# Altium footprint library capacitors.pcblib: 28 footprints (part 1 of 2)
Each footprint in its own frame and in the unit in brackets; x right, y up, seen from the top. Pads: shape width x height; smd on the part's side, far side on the other; paste and mask are expansions set on the pad; w line width, h text height; cw(c..) or ccw(c..) is an arc to the next point about the centre after c.
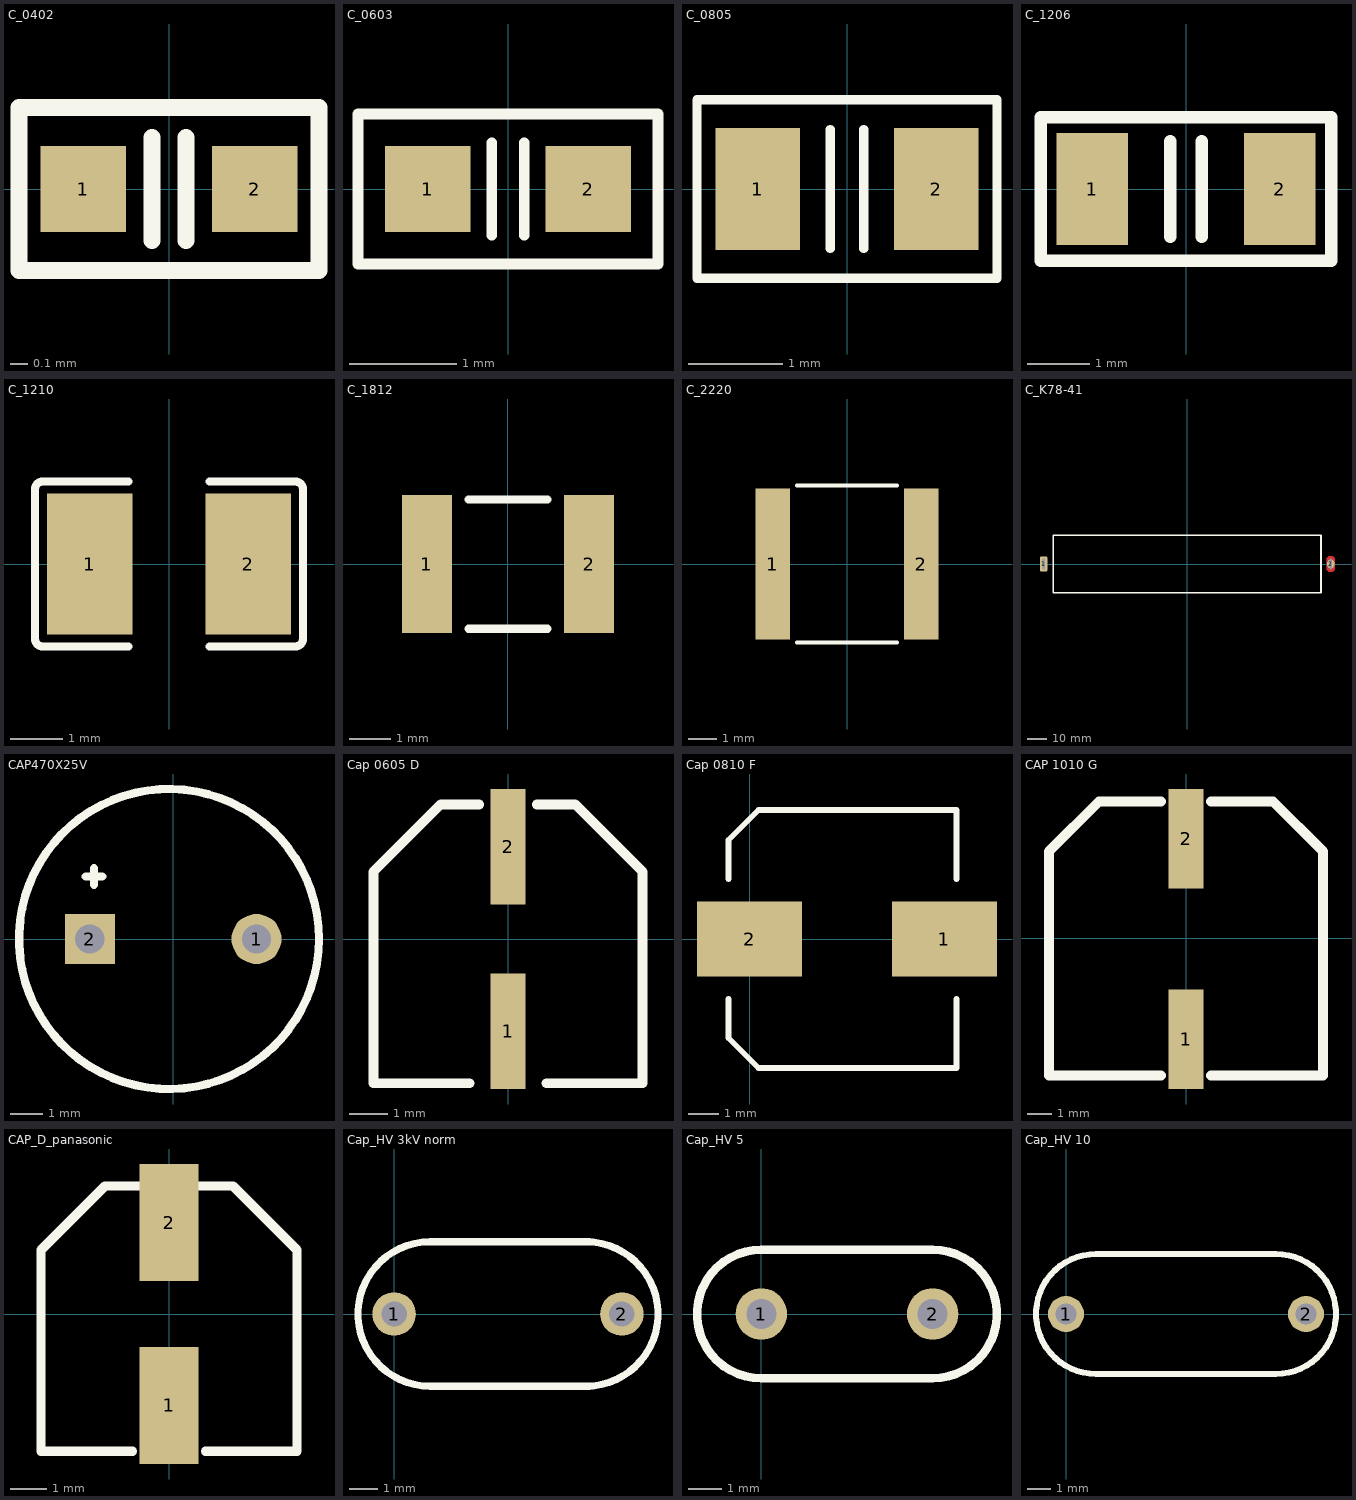
[diagram p0: the footprints below, top view; thin cyan lines are the x and y axes]

## C_0402 [mm]
pads (2):
  rect 0.5x0.5 smd: 1(-0.5,0) 2(0.5,0)
Top Overlay:
  lines w0.1: -0.1,-0.3 -0.1,0.3 ; 0.1,-0.3 0.1,0.3 ; -0.875,-0.475 0.875,-0.475 0.875,0.475 -0.875,0.475 -0.875,-0.475
3D body "User Library-cap_0402.step": height 0.5, standoff 0, extent -0.5,-0.25 0.5,0.25

## C_0603 [mm] "Chip Capacitor; Body 1.6 x 0.8 mm (LxW typ)"
height 0.87
pads (2):
  rect 0.8x0.8 smd: 1(-0.75,0) 2(0.75,0)
Top Overlay:
  lines w0.1: -0.152,-0.432 -0.152,0.432 ; 0.152,-0.432 0.152,0.432 ; -1.4,-0.7 -1.4,0.7 1.4,0.7 1.4,-0.7 -1.4,-0.7
3D body "0603 SMD Capacitor.step": height 0.3, standoff 0, extent -0.8,-0.4 0.8,0.4

## C_0805 [mm] "Capacitor Pattern"
height 2.54
pads (2):
  rect 0.9x1.3 smd: 1(-0.95,0) 2(0.95,0)
Top Overlay:
  lines w0.1: -0.178,-0.635 -0.178,0.635 ; 0.178,-0.635 0.178,0.635 ; -1.6,-0.95 1.6,-0.95 1.6,0.95 -1.6,0.95 -1.6,-0.95
3D body "User Library-Chip Cap_MLCC_0805 (2012)_A.step": height 0.6, standoff 0, extent -1,-0.63 1,0.62

## C_1206 [mm]
height 3.048
pads (2):
  rect 1.15x1.8 smd: 1(-1.5,0) 2(1.5,0)
Top Overlay:
  lines w0.2: -0.254,-0.762 -0.254,0.762 ; 0.254,-0.762 0.254,0.762 ; -2.325,-1.15 2.325,-1.15 2.325,1.15 -2.325,1.15 -2.325,-1.15
3D body "1206 SMD Capacitor.step": height 1, standoff 0, extent -1.6,-0.8 1.6,0.8

## C_1210 [mm]
pads (2):
  rect 1.635x2.7 smd paste-100 mask+0.051: 1(-1.517,0) 2(1.517,0)
Top Overlay:
  lines w0.152: -0.776,-1.579 -2.411,-1.579 cw(c-2.411,-1.426) -2.564,-1.426 -2.564,1.426 cw(c-2.411,1.426) -2.411,1.579 -0.776,1.579 ; 0.776,-1.579 2.411,-1.579 ccw(c2.411,-1.426) 2.564,-1.426 2.564,1.426 ccw(c2.411,1.426) 2.411,1.579 0.776,1.579
Top Paste:
  region: -0.7,-1.25 -0.7,-0.559 -0.8,-0.459 -1.156,-0.459 -1.256,-0.359 -1.256,0.359 -1.156,0.459 -0.8,0.459 -0.7,0.559 -0.7,1.25 -0.8,1.35 -2.235,1.35 -2.335,1.25 -2.335,-1.25 -2.235,-1.35 -0.8,-1.35
  region: 0.7,-1.25 0.7,-0.559 0.8,-0.459 1.156,-0.459 1.256,-0.359 1.256,0.359 1.156,0.459 0.8,0.459 0.7,0.559 0.7,1.25 0.8,1.35 2.235,1.35 2.335,1.25 2.335,-1.25 2.235,-1.35 0.8,-1.35
3D body "User Library-CAPC3225.step": height 2.5, standoff 0, extent -1.6,-1.25 1.6,1.25

## C_1812 [mm]
pads (2):
  rect 1.2x3.3 smd: 1(-1.95,0) 2(1.95,0)
Top Overlay:
  lines w0.2: -0.95,-1.55 0.95,-1.55 ; -0.95,1.55 0.95,1.55
3D body: height 1.9, standoff 0, extent -2.4,-1.7 -1.8,1.7
3D body: height 1.9, standoff 0, extent 1.8,-1.7 2.4,1.7
3D body: height 1.9, standoff 0, extent -1.8,-1.7 1.8,1.7

## C_2220 [mm]
pads (2):
  rect 1.2x5.3 smd: 1(-2.6,0) 2(2.6,0)
Top Overlay:
  lines w0.15: -1.75,-2.75 1.75,-2.75 ; -1.75,2.75 1.75,2.75
3D body "User Library-SMD CAPACITOR.step": height 1, standoff 0, extent -2.8,-2.5 2.8,2.5

## C_K78-41 [mm] "Capacitor"
height 2.54
pads (2):
  rrect50% 4x8 hole 1.1 slot 5.5 at 90 deg: 1(-75,0)
  oct 4x4 hole 1.1 slot 5.5 at 90 deg: 2(75,0)
Top Layer:
  region: 73,-3 73,3 74,4 76,4 77,3 77,-3 76,-4 74,-4
Bottom Layer:
  region: 73,-3 73,3 74,4 76,4 77,3 77,-3 76,-4 74,-4
Top Overlay:
  lines w1: -70,-15 70,-15 70,15 0,15 -70,15 -70,-15

## CAP470X25V [mil]
height 472.44
pads (2):
  round 60 hole 35: 1(100,0)
  rect 60x60 hole 35: 2(-100,0)
Top Overlay:
  circle w10: c-5,0 r180
  lines w10: -105,75 -85,75 ; -95,65 -95,85
3D body "Cap electro 10x12_5x5_0mm.step": height 512.81, standoff -136.91, extent -197.85,-197.85 197.85,197.85

## Cap 0605 D [mm] "Aluminum SMT 8.6x8.6x10mm cap"
pads (2):
  rect 0.9x3 smd: 1(0,-2.4) 2(0,2.4)
Top Overlay:
  lines w0.254: -1,-3.75 -3.5,-3.75 -3.5,1.75 -1.75,3.5 -0.75,3.5 ; 0.75,3.5 1.75,3.5 3.5,1.75 3.5,-3.75 1,-3.75
3D body "User Library-ALU-D.STEP": height 5.4, standoff 0, extent -3.3,-3.5 3.3,3.5

## Cap 0810 F [mm] "Aluminum SMT 8.6x8.6x10mm cap"
pads (2):
  rect 3.5x2.5 smd: 1(6.5,0) 2(0,0)
Top Overlay:
  lines w0.2: -0.7,-2 -0.7,-3.3 0.3,-4.3 ; -0.7,2 -0.7,3.3 0.3,4.3 ; 6.9,-2 6.9,-4.3 0.3,-4.3 ; 6.9,2 6.9,4.3 0.3,4.3 ; 0.3,-4.3 0.3,-4.3 ; 0.3,4.3 0.3,4.3
3D body "Cap_0810.STEP": height 10.3, standoff -0.2, extent -1.652,-4.25 8.048,4.25

## CAP 1010 G [mm]
pads (2):
  rect 1.4x4 smd: 1(0,-4.05) 2(0,4)
Top Overlay:
  lines w0.4: -1,-5.5 -5.5,-5.5 -5.5,3.5 -3.5,5.5 -1,5.5 ; 1,-5.5 5.5,-5.5 5.5,3.5 3.5,5.5 1,5.5
3D body "User Library-CC1010.step": height 10.41, standoff 0, extent -5.2,-5.5 5.2,5.5

## CAP_D_panasonic [mm]
pads (2):
  rect 1.6x3.2 smd: 1(0,-2.5) 2(0,2.5)
Top Overlay:
  lines w0.254: -1,-3.75 -3.5,-3.75 -3.5,1.75 -1.75,3.5 -0.75,3.5 ; 0.75,3.5 1.75,3.5 3.5,1.75 3.5,-3.75 1,-3.75
3D body "User Library-ALU-D.STEP": height 5.4, standoff 0, extent -3.3,-3.5 3.3,3.5

## Cap_HV 3kV norm [mil]
height 433.07
pads (2):
  round 60 hole 35: 1(0,0) 2(314.96,0)
Top Overlay:
  lines w10: 265,-100 ccw(c265,0) 265,100 ; 270,-100 50,-100 cw(c50,0) 50,100 270,100
3D body "CAP 8 HV.stp": height 472.3, standoff -59.06, extent -43.31,-60.04 358.27,58.08

## Cap_HV 5 [mil]
height 275.59
pads (2):
  round 60 hole 35: 1(0,0) 2(200,0)
Top Overlay:
  lines w10: 0,-75 cw(c0,0) 0,75 200,75 cw(c200,0) 200,-75 0,-75
3D body "Kondensator_5mm.step": height 452.76, standoff -42.01, extent -59.05,-49.6 255.91,49.22

## Cap_HV 10 [mil]
height 275.59
pads (2):
  round 60 hole 35: 1(0,0) 2(400,0)
Top Overlay:
  lines w10: 50,-100 cw(c50,0) 50,100 350,100 cw(c350,0) 350,-100 50,-100